# EAGLE library part ADS1298 (library texas)
Analog Front-End for Biopotential Measurements Low-Power, 8-Channel, 24-Bit
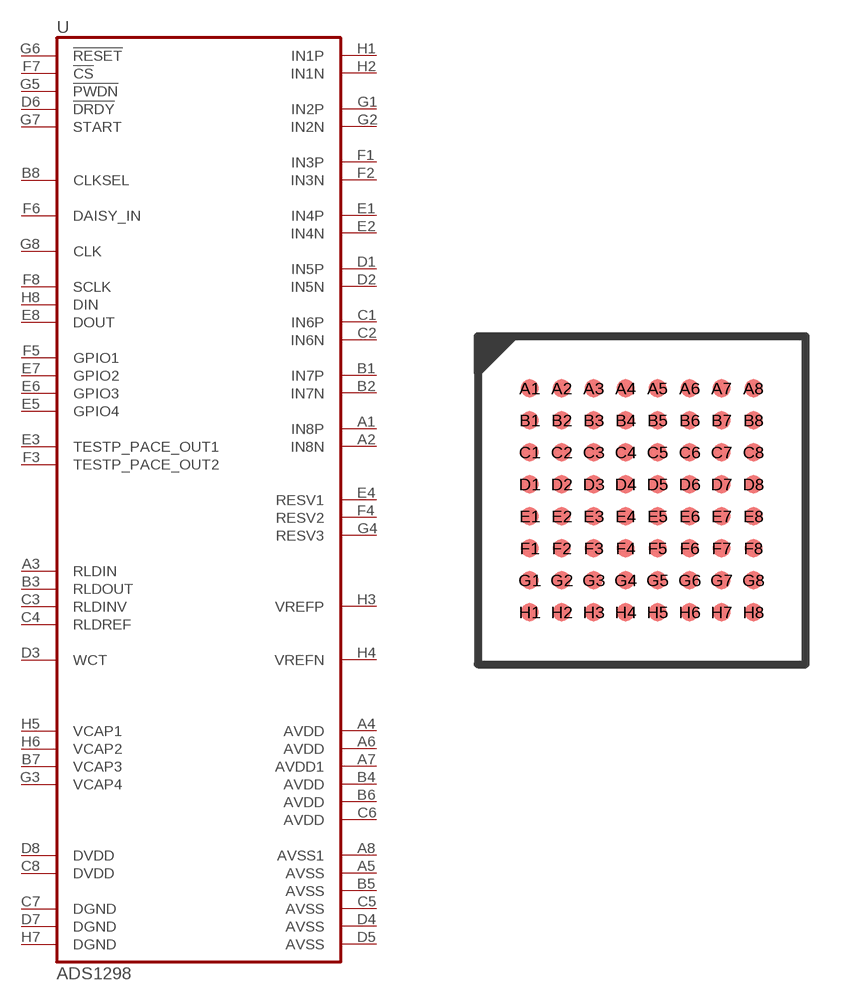
[diagram p61: symbol with the pads of NFBGA64; footprint NFBGA64]

Designator prefix U

## ADS1298ZXG  [NFBGA64]
A1  IN8P  in
A2  IN8N  in
A3  RLDIN  in
A4  AVDD  pwr
A5  AVSS  pwr
A6  AVDD  pwr
A7  AVDD1  pwr
A8  AVSS1  pwr
B1  IN7P  in
B2  IN7N  in
B3  RLDOUT  out
B4  AVDD  pwr
B5  AVSS  pwr
B6  AVDD  pwr
B7  VCAP3  in
B8  CLKSEL  in
C1  IN6P  in
C2  IN6N  in
C3  RLDINV
C4  RLDREF  in
C5  AVSS  pwr
C6  AVDD  pwr
C7  DGND  pwr
C8  DVDD  pwr
D1  IN5P  in
D2  IN5N  in
D3  WCT  out
D4  AVSS  pwr
D5  AVSS  pwr
D6  !DRDY!  out
D7  DGND  pwr
D8  DVDD  pwr
E1  IN4P  in
E2  IN4N  in
E3  TESTP_PACE_OUT1
E4  RESV1
E5  GPIO4
E6  GPIO3
E7  GPIO2
E8  DOUT  out
F1  IN3P  in
F2  IN3N  in
F3  TESTP_PACE_OUT2
F4  RESV2
F5  GPIO1
F6  DAISY_IN  in
F7  !CS!  in
F8  SCLK  in
G1  IN2P  in
G2  IN2N  in
G3  VCAP4  in
G4  RESV3
G5  !PWDN!  in
G6  !RESET!  in
G7  START  in
G8  CLK
H1  IN1P  in
H2  IN1N  in
H3  VREFP  in
H4  VREFN  nc
H5  VCAP1  in
H6  VCAP2  in
H7  DGND  pwr
H8  DIN  in

## Footprint NFBGA64 (pad centres in mm)
NFBGA-64 ZXG(S-PBGA-N64) pitch 0.8 mm, body 8.1 x 8.1 mm
smd 0.45 x 0.45: A1 -2.8,2.8; A2 -2,2.8; A3 -1.2,2.8; A4 -0.4,2.8; A5 0.4,2.8; A6 1.2,2.8; A7 2,2.8; A8 2.8,2.8; B1 -2.8,2; B2 -2,2; B3 -1.2,2; B4 -0.4,2; B5 0.4,2; B6 1.2,2; B7 2,2; B8 2.8,2; C1 -2.8,1.2; C2 -2,1.2; C3 -1.2,1.2; C4 -0.4,1.2; C5 0.4,1.2; C6 1.2,1.2; C7 2,1.2; C8 2.8,1.2; D1 -2.8,0.4; D2 -2,0.4; D3 -1.2,0.4; D4 -0.4,0.4; D5 0.4,0.4; D6 1.2,0.4; D7 2,0.4; D8 2.8,0.4; E1 -2.8,-0.4; E2 -2,-0.4; E3 -1.2,-0.4; E4 -0.4,-0.4; E5 0.4,-0.4; E6 1.2,-0.4; E7 2,-0.4; E8 2.8,-0.4; F1 -2.8,-1.2; F2 -2,-1.2; F3 -1.2,-1.2; F4 -0.4,-1.2; F5 0.4,-1.2; F6 1.2,-1.2; F7 2,-1.2; F8 2.8,-1.2; G1 -2.8,-2; G2 -2,-2; G3 -1.2,-2; G4 -0.4,-2; G5 0.4,-2; G6 1.2,-2; G7 2,-2; G8 2.8,-2; H1 -2.8,-2.8; H2 -2,-2.8; H3 -1.2,-2.8; H4 -0.4,-2.8; H5 0.4,-2.8; H6 1.2,-2.8; H7 2,-2.8; H8 2.8,-2.8